# Altium footprint library PCB1.PcbLib: 13 footprints
Each footprint in its own frame and in the unit in brackets; x right, y up, seen from the top. Pads: shape width x height; smd on the part's side, far side on the other; paste and mask are expansions set on the pad; w line width, h text height; cw(c..) or ccw(c..) is an arc to the next point about the centre after c.
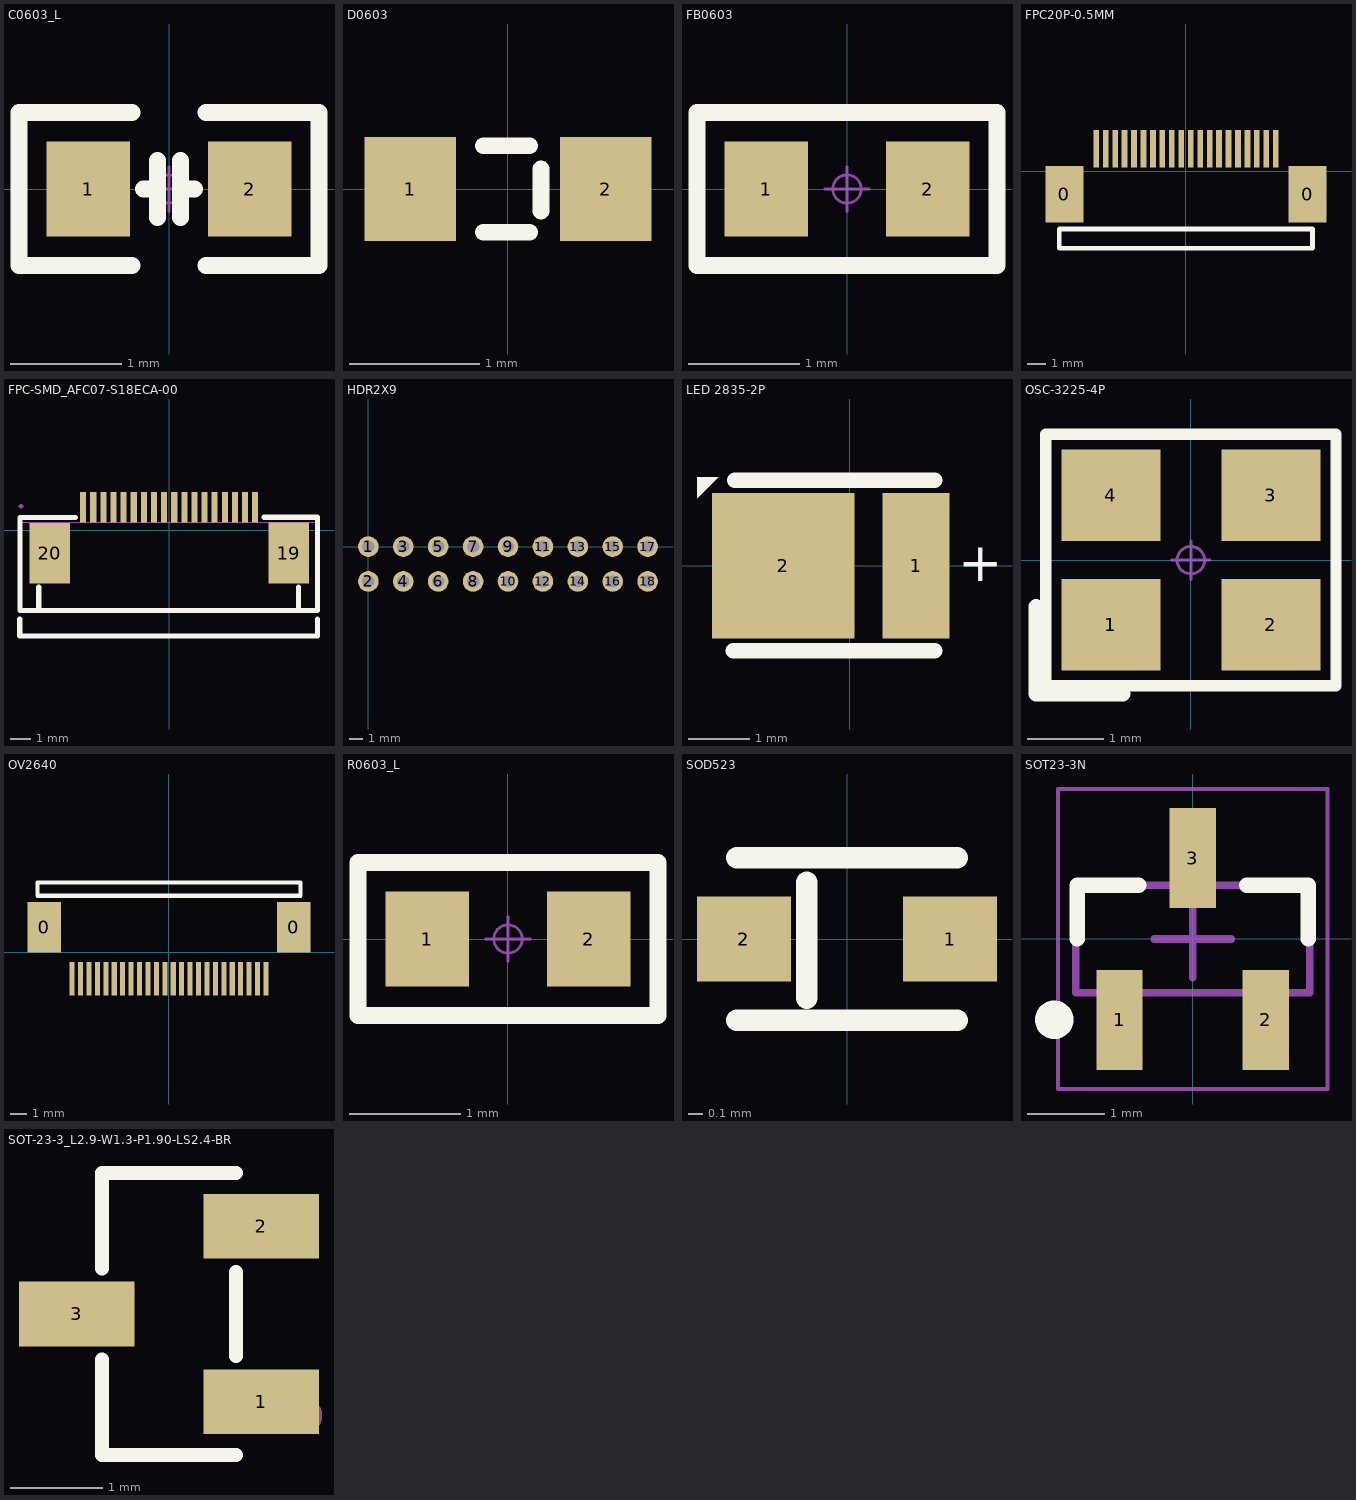
[diagram p0: the footprints below, top view; thin cyan lines are the x and y axes]

## C0603_L [mm]
pads (2):
  rect 0.75x0.85 smd: 1(-0.725,0) 2(0.725,0)
Top Overlay:
  lines w0.152: -0.33,-0.686 -1.346,-0.686 -1.346,0.686 -0.33,0.686 ; -0.229,0 -0.102,0 ; -0.102,-0.254 -0.102,0.254 ; 0.102,-0.254 0.102,0.254 ; 0.102,0 0.229,0 ; 0.33,-0.686 1.346,-0.686 1.346,0.686 0.33,0.686
Mechanical 15:
  circle w0.025: c0,0 r0.127
  lines w0.025: -0.2,0 0.2,0 ; 0,-0.2 0,0.2
3D body "C0603H08-2S.stp": height 0.8, standoff 0, extent -0.8,-0.4 0.8,0.4

## D0603 [mm]
pads (2):
  rect 0.7x0.8 smd: 1(-0.75,0) 2(0.75,0)
Top Overlay:
  lines w0.127: -0.19,-0.333 0.165,-0.333 ; -0.19,0.333 0.165,0.333 ; 0.253,-0.17 0.253,0.154
3D body "LED-0603.STEP": height 0.52, standoff -0.03, extent -0.851,-0.387 0.8,0.413

## FB0603 [mm]
pads (2):
  rect 0.75x0.85 smd: 1(-0.725,0) 2(0.725,0)
Top Overlay:
  lines w0.152: -1.346,-0.686 1.346,-0.686 1.346,0.686 -1.346,0.686 -1.346,-0.686
Mechanical 15:
  circle w0.025: c0,0 r0.127
  lines w0.025: -0.2,0 0.2,0 ; 0,-0.2 0,0.2
3D body "L0603H08-2S.stp": height 0.8, standoff 0, extent -0.8,-0.4 0.8,0.4

## FPC20P-0.5MM [mm]
pads (22):
  rect 2x3 smd: 0(-6.436,-1.202) 0(6.436,-1.202)
  rect 0.3x2 smd: 1(4.75,1.202) 2(4.25,1.202) 3(3.75,1.202) 4(3.25,1.202) 5(2.75,1.202) 6(2.25,1.202) 7(1.75,1.202) 8(1.25,1.202) 9(0.75,1.202) 10(0.25,1.202) 11(-0.25,1.202) 12(-0.75,1.202) 13(-1.25,1.202) 14(-1.75,1.202) 15(-2.25,1.202) 16(-2.75,1.202) 17(-3.25,1.202) 18(-3.75,1.202) 19(-4.25,1.202) 20(-4.75,1.202)
Top Overlay:
  lines w0.254: -6.701,-4.065 6.699,-4.065 6.699,-3.049 -6.701,-3.049 -6.701,-4.065
3D body "52892-2090.stp": height 2.1, standoff 0.06, extent -7.7,-4 7.7,1.5

## FPC-SMD_AFC07-S18ECA-00 [mm]
pads (20):
  rect 0.3x1.5 smd: 1(-4.26,1.133) 2(-3.75,1.133) 3(-3.25,1.133) 4(-2.75,1.133) 5(-2.25,1.133) 6(-1.75,1.133) 7(-1.25,1.133) 8(-0.75,1.133) 9(-0.25,1.133) 10(0.25,1.133) 11(0.75,1.133) 12(1.25,1.133) 13(1.75,1.133) 14(2.25,1.133) 15(2.75,1.133) 16(3.25,1.133) 17(3.75,1.133) 18(4.25,1.133)
  rect 2x3 smd: 19(5.901,-1.126) 20(-5.901,-1.133)
Top Overlay:
  lines w0.254: -7.38,-4.387 -7.38,-5.216 7.327,-5.216 7.327,-4.387 ; -7.372,-3.966 7.327,-3.966 7.327,0.641 4.699,0.641 ; -7.372,0.626 -7.36,-3.947 ; -7.372,0.627 -4.638,0.627 ; -6.44,-3.966 -6.44,-2.807 ; 6.382,-3.966 6.382,-2.807
Mechanical 15:
  region: -6.651,0.117 -5.151,0.117 -5.151,-2.383 -6.651,-2.383
  region: 6.651,-2.376 5.151,-2.376 5.151,0.124 6.651,0.124
  region: 4.35,0.382 4.15,0.382 4.15,1.232 4.35,1.232
  region: 3.85,0.382 3.65,0.382 3.65,1.232 3.85,1.232
  region: 3.35,0.382 3.15,0.382 3.15,1.232 3.35,1.232
  region: 2.85,0.382 2.65,0.382 2.65,1.232 2.85,1.232
  region: 2.35,0.382 2.15,0.382 2.15,1.232 2.35,1.232
  region: 1.85,0.382 1.65,0.382 1.65,1.232 1.85,1.232
  region: 1.35,0.382 1.15,0.382 1.15,1.232 1.35,1.232
  region: 0.85,0.382 0.65,0.382 0.65,1.232 0.85,1.232
  region: 0.35,0.382 0.15,0.382 0.15,1.232 0.35,1.232
  region: -0.15,0.382 -0.35,0.382 -0.35,1.232 -0.15,1.232
  region: -0.65,0.382 -0.85,0.382 -0.85,1.232 -0.65,1.232
  region: -1.15,0.382 -1.35,0.382 -1.35,1.232 -1.15,1.232
  region: -1.65,0.382 -1.85,0.382 -1.85,1.232 -1.65,1.232
  region: -2.15,0.382 -2.35,0.382 -2.35,1.232 -2.15,1.232
  region: -2.65,0.382 -2.85,0.382 -2.85,1.232 -2.65,1.232
  region: -3.15,0.382 -3.35,0.382 -3.35,1.232 -3.15,1.232
  region: -3.65,0.382 -3.85,0.382 -3.85,1.232 -3.65,1.232
  region: -4.16,0.382 -4.36,0.382 -4.36,1.232 -4.16,1.232
  region: -7.216,1.182 -7.216,1.224 -7.275,1.283 -7.358,1.283 -7.416,1.224 -7.416,1.182 -7.416,1.141 -7.358,1.082 -7.275,1.082 -7.216,1.141 -7.216,1.182
  lines w0.051: -7.366,-3.963 7.234,-3.963 7.234,0.387 -7.366,0.387 -7.366,-3.963

## HDR2X9 [mm]
pads (18):
  round 1.5 hole 0.9: 1(0,0) 2(0,-2.54) 3(2.54,0) 4(2.54,-2.54) 5(5.08,0) 6(5.08,-2.54) 7(7.62,0) 8(7.62,-2.54) 9(10.16,0) 10(10.16,-2.54) 11(12.7,0) 12(12.7,-2.54) 13(15.24,0) 14(15.24,-2.54) 15(17.78,0) 16(17.78,-2.54) 17(20.32,0) 18(20.32,-2.54)

## LED 2835-2P [mm]
pads (2):
  rect 1.1x2.38 smd mask+0.051: 1(1.088,0)
  rect 2.33x2.38 smd mask+0.051: 2(-1.088,0)
Top Overlay:
  region: -2.5,1.1 -2.5,1.45 -2.15,1.45
  lines w0.254: -1.905,-1.397 1.397,-1.397 ; -1.885,1.397 1.397,1.397
  text "+" at 1.778,-0.254 h0.64
3D body "LED2835-2.stp": height 0.71, standoff 0, extent -2.063,-1.4 1.537,1.4

## OSC-3225-4P [mm]
pads (4):
  rect 1.3x1.2 smd: 1(-1.05,-0.85) 2(1.05,-0.85) 3(1.05,0.85) 4(-1.05,0.85)
Top Overlay:
  lines w0.15: -1.905,-1.651 1.905,-1.651 1.905,1.651 -1.905,1.651 -1.905,-1.651
  lines w0.2: -2.032,-1.753 -0.889,-1.753 ; -2.032,-1.727 -2.032,-0.61
Mechanical 15:
  circle w0.04: c0,0 r0.18
  lines w0.04: -0.254,0 0.254,0 ; 0,-0.254 0,0.254
3D body "OSC_3225-4.STEP": height 0.7, standoff -0.02, extent -1.6,-1.25 1.6,1.25

## OV2640 [mm]
pads (26):
  rect 2x3 smd: 0(-7.4,1.476) 0(7.4,1.476)
  rect 0.3x2 smd: 1(-5.746,-1.574) 2(-5.248,-1.576) 3(-4.748,-1.576) 4(-4.248,-1.576) 5(-3.748,-1.576) 6(-3.248,-1.576) 7(-2.748,-1.576) 8(-2.248,-1.576) 9(-1.748,-1.576) 10(-1.248,-1.576) 11(-0.748,-1.576) 12(-0.248,-1.576) 13(0.252,-1.576) 14(0.752,-1.576) 15(1.252,-1.576) 16(1.752,-1.576) 17(2.252,-1.576) 18(2.752,-1.576) 19(3.252,-1.576) 20(3.752,-1.576) 21(4.252,-1.576) 22(4.752,-1.576) 23(5.252,-1.576) 24(5.752,-1.576)
Top Overlay:
  lines w0.254: -7.8,3.342 7.8,3.342 7.8,4.135 -7.8,4.135 -7.8,3.342

## R0603_L [mm]
pads (2):
  rect 0.75x0.85 smd: 1(-0.725,0) 2(0.725,0)
Top Overlay:
  lines w0.152: -1.346,-0.686 -1.346,0.686 1.346,0.686 1.346,-0.686 -1.346,-0.686
Mechanical 15:
  circle w0.025: c0,0 r0.127
  lines w0.025: -0.2,0 0.2,0 ; 0,-0.2 0,0.2
3D body "R0603-2.stp": height 0.4, standoff 0, extent -0.8,-0.4 0.8,0.4

## SOD523 [mil]
pads (2):
  rect 26x23.62 smd paste+0 mask+0: 1(28.5,0) 2(-28.5,0)
Top Overlay:
  lines w6: -30.5,-22.5 30.5,-22.5 ; -30.5,22.5 30.5,22.5 ; -11.11,-16.31 -11.11,15.69
3D body "ZDO_SOD-523_STM.step": height 28.27, standoff 0, extent -33.51,-17.46 33.5,17.5

## SOT23-3N [mm]
height 1.12
pads (3):
  rect 0.6x1.3 smd: 1(-0.95,-1.05) 2(0.95,-1.05) 3(0,1.05)
Top Overlay:
  circle w0.25: c-1.8,-1.05 r0.125
  lines w0.2: -1.5,0 -1.5,0.7 -0.7,0.7 ; 0.7,0.7 1.5,0.7 1.5,0
Mechanical 13:
  lines w0.1: -1.52,-0.7 1.52,-0.7 1.52,0.7 -1.52,0.7 -1.52,-0.7
Mechanical 15:
  lines w0.05: -1.75,-1.95 1.75,-1.95 1.75,1.95 -1.75,1.95 -1.75,-1.95
  lines w0.1: -0.5,0 0.5,0 ; 0,-0.5 0,0.5
3D body "SOT23-3.STEP": height 1.05, standoff 0, extent -1.5,-1.2 1.5,1.2

## SOT-23-3_L2.9-W1.3-P1.90-LS2.4-BR [mm]
pads (3):
  rect 1.25x0.7 smd paste+0 mask+0.051: 1(431.596,-422.514) 2(431.596,-420.614) 3(429.597,-421.564)
Top Overlay:
  lines w0.152: 429.87,-422.058 429.87,-423.09 431.323,-423.09 ; 429.87,-421.069 429.87,-420.038 431.323,-420.038 ; 431.323,-422.019 431.323,-421.108
Mechanical 15:
  circle w0.2: c432.057,-422.664 r0.1